# EAGLE library part MICRO-USB (library gimbal)
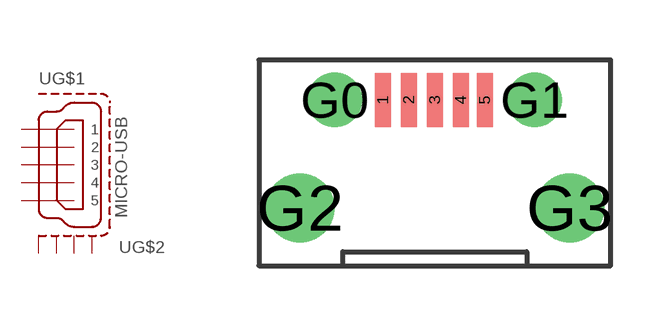
[diagram p8: symbol with the pads of FCI_MICROUSB_SMT_RA; footprint FCI_MICROUSB_SMT_RA]

Designator prefix -; gates G$1=MINI-USB G$2=USB-SHIELD

## MICRO-USB  [FCI_MICROUSB_SMT_RA]
1  G$1:1  in
2  G$1:2  in
3  G$1:3  in
4  G$1:4  in
5  G$1:5  in
G0  G$2:S1  pas
G1  G$2:S2  pas
G2  G$2:S3  pas
G3  G$2:S4  pas

## Footprint FCI_MICROUSB_SMT_RA (pad centres in mm)
smd 0.4 x 1.35: 1 -1.3,1.5; 2 -0.65,1.5; 3 0,1.5; 4 0.65,1.5; 5 1.25,1.5
drill 0.85: G0 -2.5,1.5; G1 2.5,1.5
drill 1.15: G2 -3.375,-1.2; G3 3.375,-1.2